# EAGLE library part 55917-1610 (library con-molex_MOD)
2.00mm Pitch MicroClasp™ Wire-to-Board Header, Dual Row, Vertical, 16 Circuits, with PCB Locator
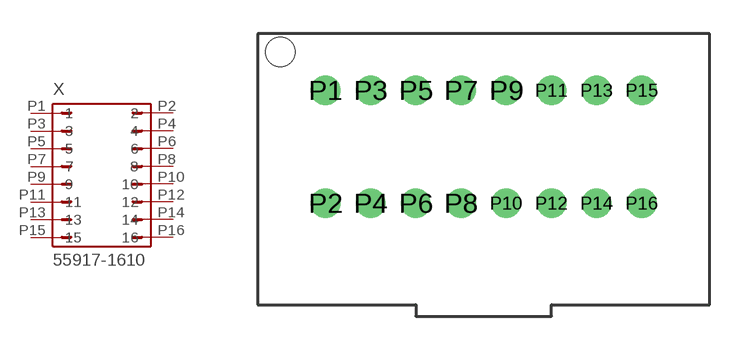
[diagram p228: symbol with the pads of 55917-1610; footprint 55917-1610]

Designator prefix X

## 55917-1610  [55917-1610]
P1  1  pas
P2  2  pas
P3  3  pas
P4  4  pas
P5  5  pas
P6  6  pas
P7  7  pas
P8  8  pas
P9  9  pas
P10  10  pas
P11  11  pas
P12  12  pas
P13  13  pas
P14  14  pas
P15  15  pas
P16  16  pas

## Footprint 55917-1610 (pad centres in mm)
drill 0.8: P1 -7,2.5; P2 -7,-2.5; P3 -5,2.5; P4 -5,-2.5; P5 -3,2.5; P6 -3,-2.5; P7 -1,2.5; P8 -1,-2.5; P9 1,2.5; P10 1,-2.5; P11 3,2.5; P12 3,-2.5; P13 5,2.5; P14 5,-2.5; P15 7,2.5; P16 7,-2.5
hole 1.3 at -9,4.2